# Altium schematic symbol library Parts.SchLib: 10 symbols
Pins are listed as number, name and electrical type; pins without a type are passive.

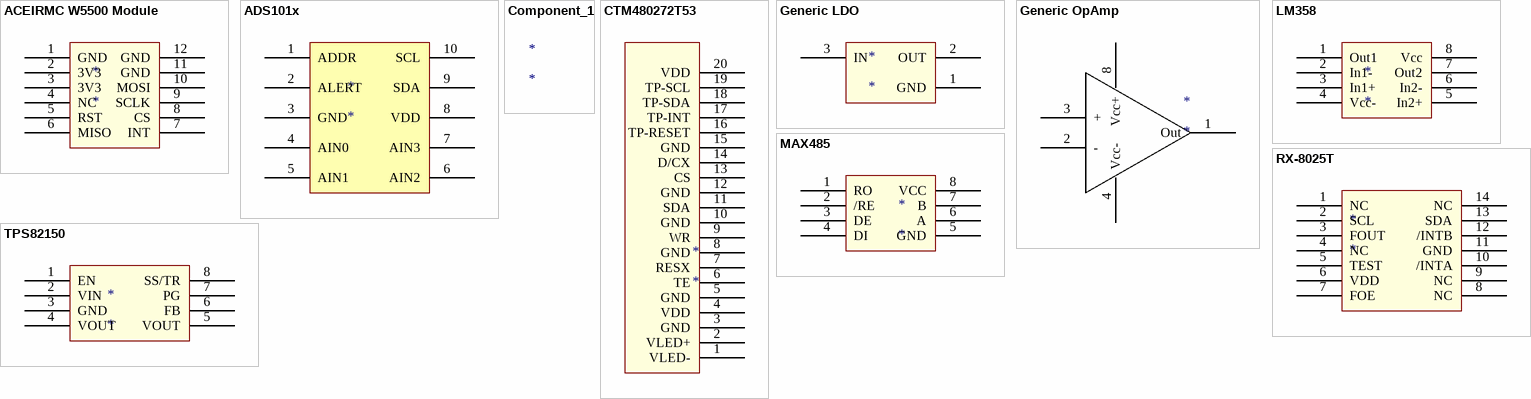
[diagram p0: symbols ACEIRMC W5500 Module to TPS82150]

## ACEIRMC W5500 Module
designator *
pins: 1 GND, 2 3V3, 3 3V3, 4 NC, 5 RST, 6 MISO, 7 INT, 8 CS, 9 SCLK, 10 MOSI, 11 GND, 12 GND

## ADS101x
designator *
pins: 1 ADDR, 2 ALERT, 3 GND, 4 AIN0, 5 AIN1, 6 AIN2, 7 AIN3, 8 VDD, 9 SDA, 10 SCL

## Component_1
designator *

## CTM480272T53
designator *
pins: 1 VLED-, 2 VLED+, 3 GND, 4 VDD, 5 GND, 6 TE, 7 RESX, 8 GND, 9 WR, 10 GND, 11 SDA, 12 GND, 13 CS, 14 D/CX, 15 GND, 16 TP-RESET, 17 TP-INT, 18 TP-SDA, 19 TP-SCL, 20 VDD

## Generic LDO
designator *
pins: 1 GND, 2 OUT, 3 IN

## Generic OpAmp
designator *
pins: 1 Out, 2 -, 3 +, 4 Vcc-, 8 Vcc+

## LM358
designator *
pins: 1 Out1, 2 In1-, 3 In1+, 4 Vcc-, 5 In2+, 6 In2-, 7 Out2, 8 Vcc

## MAX485
designator *
pins: 1 RO, 2 /RE, 3 DE, 4 DI, 5 GND, 6 A, 7 B, 8 VCC

## RX-8025T
designator *
pins: 1 NC, 2 SCL, 3 FOUT, 4 NC, 5 TEST, 6 VDD, 7 FOE, 8 NC, 9 NC, 10 /INTA, 11 GND, 12 /INTB, 13 SDA, 14 NC

## TPS82150
designator *
pins: 1 EN, 2 VIN, 3 GND, 4 VOUT, 5 VOUT, 6 FB, 7 PG, 8 SS/TR